# Altium footprint library Beloedov.PcbLib: 4 footprints
Each footprint in its own frame and in the unit in brackets; x right, y up, seen from the top. Pads: shape width x height; smd on the part's side, far side on the other; paste and mask are expansions set on the pad; w line width, h text height; cw(c..) or ccw(c..) is an arc to the next point about the centre after c.
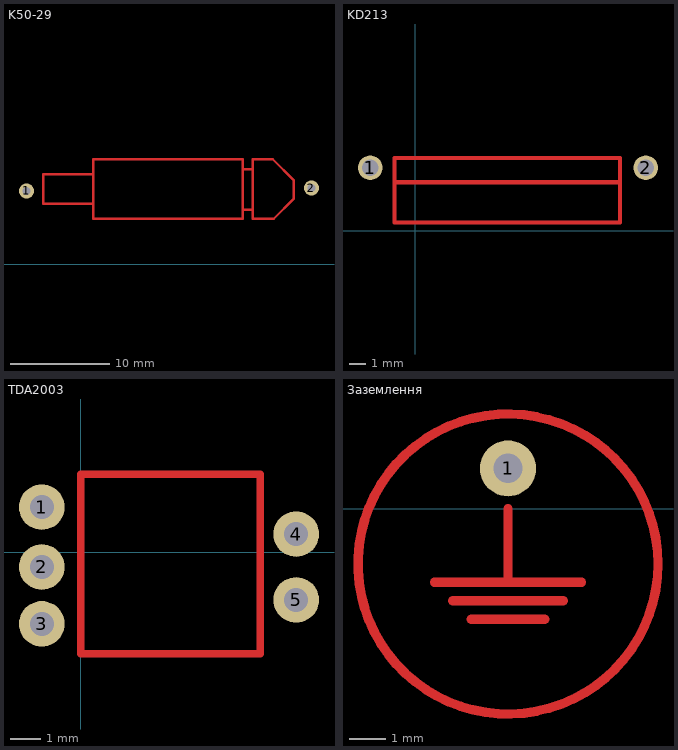
[diagram p0: the footprints below, top view; thin cyan lines are the x and y axes]

## K50-29 [mm]
pads (2):
  round 1.524 hole 0.8: 1(7.8,7.4) 2(36.5,7.7)
Top Layer:
  lines w0.254: 14.5,6.2 14.4,6.1 14.3,6.1 9.5,6.1 ; 14.5,9.1 9.5,9.1 9.5,7.6 9.5,6.1 ; 29.5,10.6 14.5,10.6 14.5,4.6 29.6,4.6 29.6,10.6 ; 29.6,5.5 30.6,5.5 ; 29.6,9.6 30.6,9.6 ; 9.5,6.1 9.5,6.1 ; 30.6,4.6 31.6,4.6 32.7,4.6 34.7,6.6 34.7,8.5 32.6,10.6 31.6,10.6 30.6,10.6 30.6,4.6
  text "K50-29" at 20.3,7.1 h1.52

## KD213 [mm]
pads (2):
  round 1.524 hole 1: 1(-2.8,3.9) 2(14.3,3.9)
Top Layer:
  lines w0.254: -1.3,3 12.7,3 ; -1.3,0.5 -1.3,4.5 12.7,4.5 12.7,0.5 -1.3,0.5
  text "KD213" at 3.6,1.3 h1.52

## TDA2003 [mm]
pads (5):
  round 1.524 hole 0.8: 1(-1.3,1.5) 2(-1.3,-0.5) 3(-1.3,-2.4) 4(7.2,0.6) 5(7.2,-1.6)
Top Layer:
  lines w0.254: 0,-3.4 0,2.6 6,2.6 6,-3.4 0,-3.4
  text "TDA2003" at 0.7,-0.8 h1.52

## Заземлення [mm]
pads (1):
  round 1.524 hole 0.8: 1(5.5,1.1)
Top Layer:
  circle w0.254: c5.5,-1.5 r4.08
  lines w0.254: 3.5,-2 7.5,-2 ; 4,-2.5 7,-2.5 ; 4.5,-3 6.5,-3 ; 5.5,-2 5.5,0
  text "GROUND" at 3.1,-4.3 h1.52